# Altium footprint library PCB_PassiveInd.PcbLib: 10 footprints
Each footprint in its own frame and in the unit in brackets; x right, y up, seen from the top. Pads: shape width x height; smd on the part's side, far side on the other; paste and mask are expansions set on the pad; w line width, h text height; cw(c..) or ccw(c..) is an arc to the next point about the centre after c.
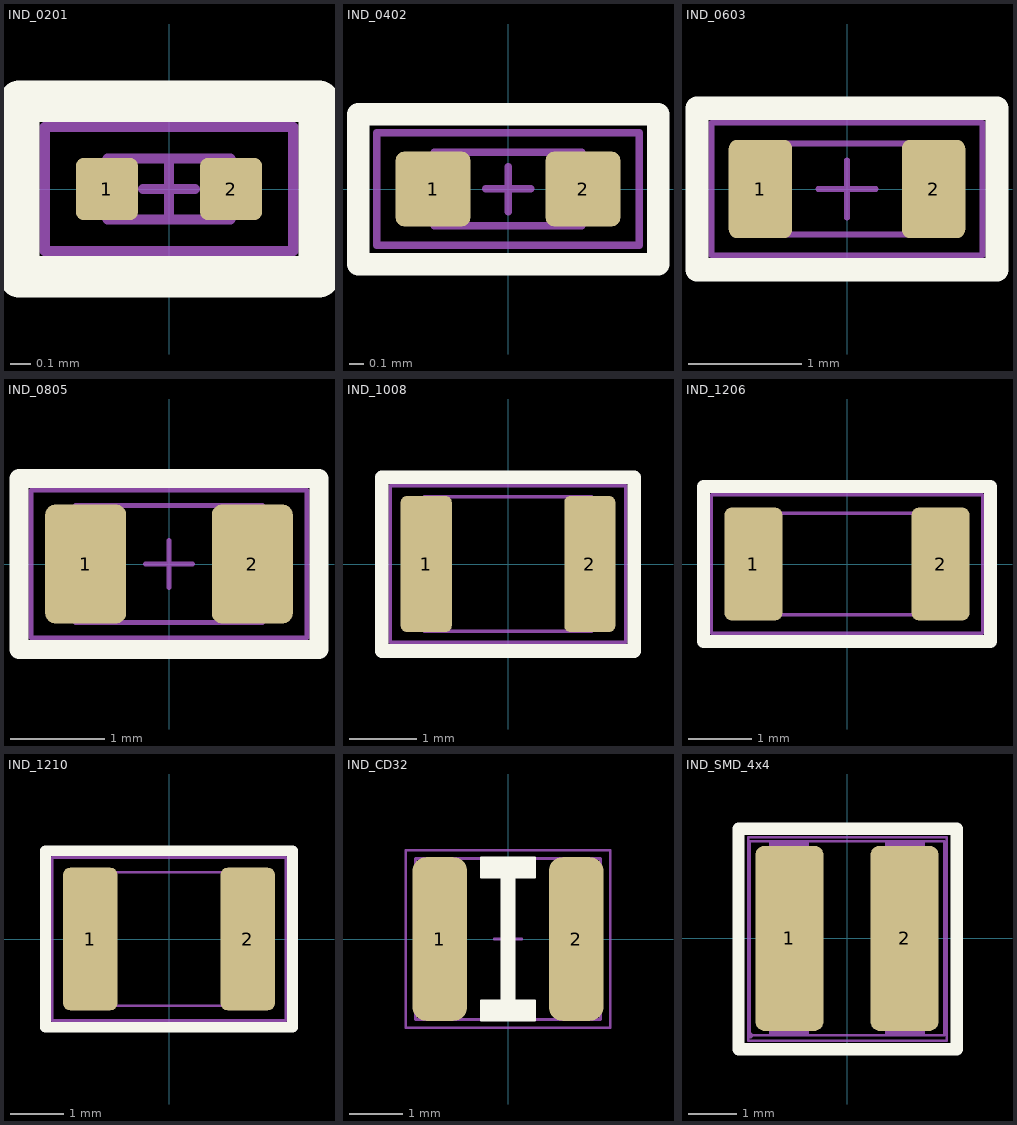
[diagram p0: the footprints below, top view; thin cyan lines are the x and y axes]

## IND_0201 [mil]
height 15.75
pads (2):
  rrect25% 12x12 smd mask+2: 1(-12,0) 2(12,0)
Top Overlay:
  lines w8: -29,-17 29,-17 29,17 -29,17 -29,-17
Mechanical 13:
  lines w2: -5,0 5,0 ; 0,-5 0,5 ; -11.81,-5.91 11.81,-5.91 11.81,5.91 -11.81,5.91 -11.81,-5.91
T-Component:
  lines w2: -24,-12 24,-12 24,12 -24,12 -24,-12
3D body "INDC0603X03L.step": height 11.81, standoff 0, extent -11.81,-5.9 11.81,5.91

## IND_0402 [mil]
height 21.65
pads (2):
  rrect25% 20x20 smd mask+2: 1(-20,0) 2(20,0)
Top Overlay:
  lines w6: -40,-20 40,-20 40,20 -40,20 -40,-20
Mechanical 13:
  lines w2: -6,0 6,0 ; 0,-6 0,6 ; -19.69,-9.84 -19.69,9.84 19.68,9.84 19.68,-9.84 -19.69,-9.84
T-Component:
  lines w2: -35,-15 35,-15 35,15 -35,15 -35,-15
3D body "INDC1005X05L.step": height 19.68, standoff 0, extent -19.68,-9.84 19.69,9.85

## IND_0603 [mil]
height 31.5
pads (2):
  rrect25% 22x34 smd mask+2: 1(-30,0) 2(30,0)
Top Overlay:
  lines w8: -52,-28 -52,28 52,28 52,-28 -52,-28
Mechanical 13:
  lines w2: -10,0 10,0 ; 0,-10 0,10 ; -31.5,-15.75 31.5,-15.75 31.5,15.75 -31.5,15.75 -31.5,-15.75
T-Component:
  lines w2: -47,-23 -47,23 47,23 47,-23 -47,-23
3D body "INDC1608X08L.step": height 31.5, standoff 0, extent -31.5,-15.75 31.5,15.75

## IND_0805 [mil]
height 35.43
pads (2):
  rrect25% 34x50 smd mask+2: 1(-35,0) 2(35,0)
Top Overlay:
  lines w8: -63,-36 63,-36 63,36 -63,36 -63,-36
Mechanical 13:
  lines w2: -10,0 10,0 ; 0,-10 0,10 ; -39.37,-24.61 -39.37,24.61 39.37,24.61 39.37,-24.61 -39.37,-24.61
T-Component:
  lines w2: -58,-31 -58,31 58,31 58,-31 -58,-31
3D body "INDC2012X10L.step": height 39.37, standoff 0, extent -39.37,-24.61 39.37,24.61

## IND_1008 [mil]
height 35.43
pads (2):
  rrect25% 30x80 smd mask+2: 1(-48,0) 2(48,0)
Top Overlay:
  lines w8: -74,-51 74,-51 74,51 -74,51 -74,-51
Mechanical 13:
  lines w2: -49.21,39.37 -49.21,-39.37 49.22,-39.37 49.22,39.37 ; -49.21,39.37 -49.21,39.37 ; -49.21,39.37 49.21,39.37 ; 49.21,39.37 49.22,39.37
T-Component:
  lines w2: -69,-46 69,-46 69,46 -69,46 -69,-46
3D body "INDC2012X10L.step": height 39.37, standoff 0, extent -39.37,-24.6 39.37,24.61

## IND_1206 [mil]
height 35.43
pads (2):
  rrect25% 36x70 smd: 1(-58,0) 2(58,0)
Top Overlay:
  lines w8: -89,-48 -89,48 89,48 89,-48 -89,-48
Mechanical 13:
  lines w1.97: -62.99,-31.5 -62.99,31.5 62.99,31.5 62.99,-31.5 -62.99,-31.5
T-Component:
  lines w2: -84,-43 -84,43 84,43 84,-43 -84,-43
3D body "INDC3216X130N EIA 1206.step": height 51.18, standoff 0, extent -62.99,-31.49 63,31.5

## IND_1210 [mil]
height 35.43
pads (2):
  rrect25% 40x105 smd: 1(-58,0) 2(58,0)
Top Overlay:
  lines w8: -91,-65 -91,65 91,65 91,-65 -91,-65
Mechanical 13:
  lines w1.97: -62.99,-49.21 62.99,-49.21 62.99,49.21 -62.99,49.21 -62.99,-49.21
T-Component:
  lines w2: -86,-60 -86,60 86,60 86,-60 -86,-60
3D body "INDC3225X135N EIA 1210.step": height 53.15, standoff 0, extent -62.99,-49.2 63,49.22

## IND_CD32 [mil]
pads (2):
  rrect50% 40x120 smd: 1(-50,0) 2(50,0)
Top Overlay:
  region: -20,60 20,60 20,45 5,45 5,-45 20,-45 20,-60 -20,-60 -20,-45 -5,-45 -5,45 -20,45
  lines w1: -20,-60 20,-60 20,-45 5,-45 5,45 20,45 20,60 -20,60 -20,45 -5,45 -5,-45 -20,-45 -20,-60
Mechanical 13:
  lines w2: -10,0 10,0 ; 0,-10 0,10 ; -67.88,-59.05 -67.88,59.06 67.88,59.06 67.88,-59.05 -67.88,-59.05
T-Component:
  lines w2: -75,-65 -75,65 75,65 75,-65 -75,-65
3D body "User Library-CD32-3_5x2_1.STEP": height 82.68, standoff 0, extent -67.88,-59.05 67.88,59.06

## IND_SMD_4x4 [mil]
pads (2):
  rrect25% 55x150 smd mask+2: 1(-46.65,0) 2(46.65,0)
Top Overlay:
  lines w10: -88,-90 -88,89 89,89 89,-90 -88,-90
T-Component:
  lines w2: -80,-83 81,-83 81,82 -80,82 -80,-83
B-Component:
  region: -63.19,78.74 -30.91,78.74 -30.91,-78.74 -63.19,-78.74
  region: 30.91,78.74 63.19,78.74 63.19,-78.74 30.91,-78.74
  region: -76.38,-78.74 -76.4,-77.78 -77.78,-76.43 -79.7,-76.43 -81.08,-77.78 -81.1,-78.74 -81.08,-79.7 -79.7,-81.05 -77.78,-81.05 -76.4,-79.7
  lines w2: -78.74,-78.74 -78.74,78.74 78.74,78.74 78.74,-78.74 -78.74,-78.74
3D body "3D_PCB1_2024-03-28.step": height 161.42, standoff 0, extent -78.74,-79.13 78.74,78.74

## Z_IND3D [mil]
3D body "User Library-Chip Inductor.step": height 31.5, standoff 0, extent 40.5,-17.7 103.5,19.7
3D body "INDC1608X08L.step": height 31.5, standoff 0, extent -31.49,-15.74 31.5,15.75
3D body "INDC1005X05L.step": height 19.68, standoff 0, extent -19.68,25.16 19.69,44.85
3D body "User Library-Chip Inductor 0402.step": height 19.68, standoff 0, extent 52.31,23.19 91.69,46.81